# Altium footprint library Discretes.PcbLib: 56 footprints (part 4 of 4)
Each footprint in its own frame and in the unit in brackets; x right, y up, seen from the top. Pads: shape width x height; smd on the part's side, far side on the other; paste and mask are expansions set on the pad; w line width, h text height; cw(c..) or ccw(c..) is an arc to the next point about the centre after c.
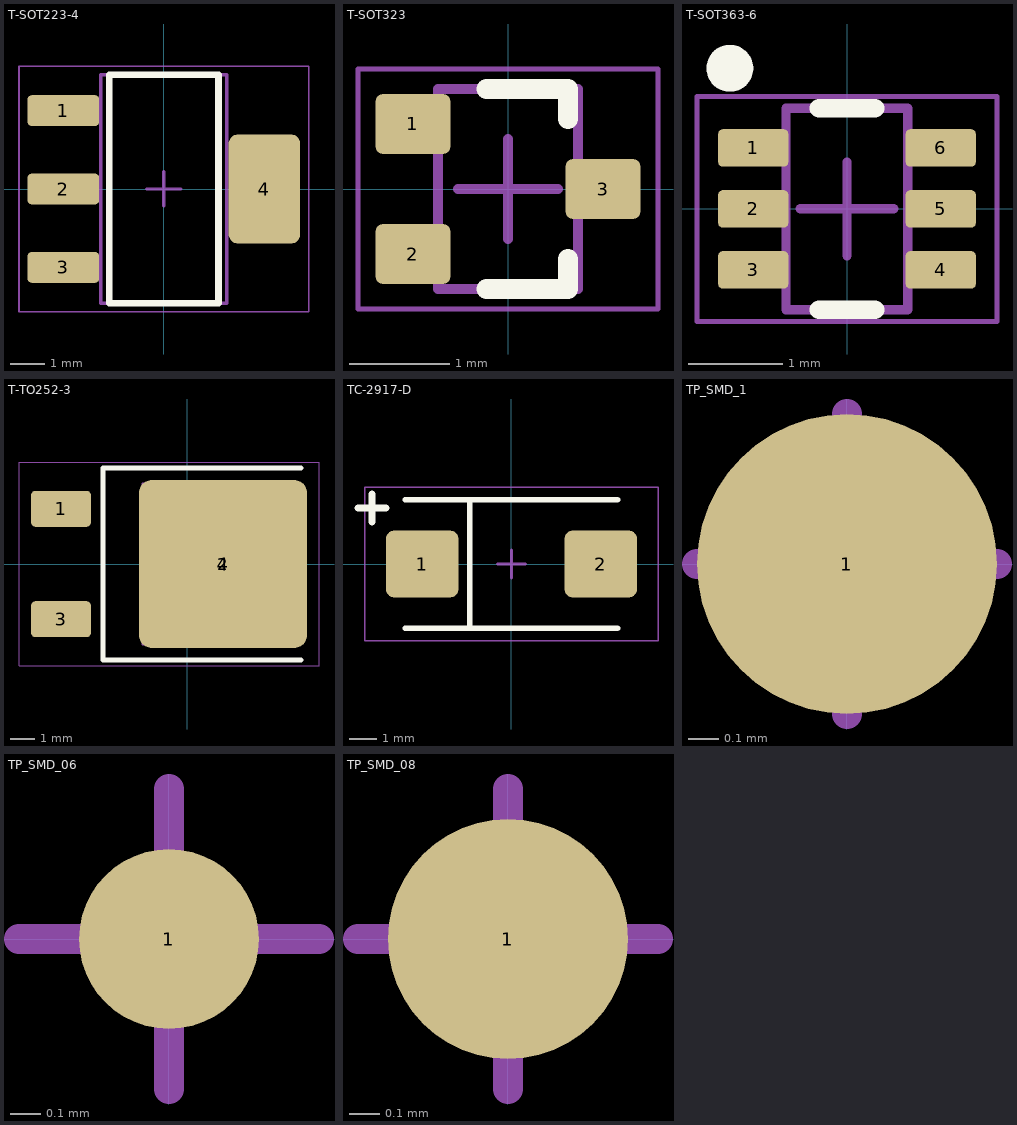
[diagram p3: the footprints below, top view; thin cyan lines are the x and y axes]

## T-SOT223-4 [mm] "SOT223, 4-Leads, Body 6.50x7.00mm (avg), Pitch 2.30mm, IPC Medium Density"
height 1.8
pads (4):
  rrect25% 2.1x0.9 smd: 1(-2.95,2.3) 2(-2.95,0) 3(-2.95,-2.3)
  rrect25% 2.1x3.2 smd: 4(2.95,0)
Top Overlay:
  lines w0.2: -1.6,-3.35 1.6,-3.35 1.6,3.35 -1.6,3.35 -1.6,-3.35
Mechanical 13:
  lines w0.1: -1.85,-3.35 1.85,-3.35 1.85,3.35 -1.85,3.35 -1.85,-3.35
Mechanical 15:
  lines w0.05: -4.25,-3.6 4.25,-3.6 4.25,3.6 -4.25,3.6 -4.25,-3.6
  lines w0.1: -0.5,0 0.5,0 ; 0,-0.5 0,0.5
3D body "SOT233-4.step": height 1.8, standoff 0, extent -3.5,-3.35 3.5,3.35

## T-SOT323 [mm] "SOT323"
height 1.2
pads (3):
  rrect25% 0.75x0.6 smd: 1(-0.95,0.65) 2(-0.95,-0.65) 3(0.95,0)
Top Overlay:
  lines w0.2: -0.215,-1 0.6,-1 0.6,-0.7 ; -0.215,1 0.6,1 0.6,0.7
Mechanical 13:
  lines w0.1: -0.7,-1 0.7,-1 0.7,1 -0.7,1 -0.7,-1
Mechanical 15:
  lines w0.05: -1.5,-1.2 1.5,-1.2 1.5,1.2 -1.5,1.2 -1.5,-1.2
  lines w0.1: -0.5,0 0.5,0 ; 0,-0.5 0,0.5
3D body "SOT323.step": height 0.93, standoff -0.02, extent -1.05,-1.05 1.05,1.05

## T-SOT363-6 [mm] "SOT363"
height 1.2
pads (6):
  rrect25% 0.75x0.4 smd: 1(-1,0.65) 2(-1,0) 3(-1,-0.65) 4(1,-0.65) 5(1,0) 6(1,0.65)
Top Overlay:
  circle w0.25: c-1.25,1.5 r0.125
  lines w0.2: -0.3,-1.075 0.3,-1.075 ; -0.3,1.075 0.3,1.075
Mechanical 13:
  lines w0.1: -0.65,-1.075 -0.65,1.075 0.65,1.075 0.65,-1.075 -0.65,-1.075
Mechanical 15:
  lines w0.05: -1.6,-1.2 -1.6,1.2 1.6,1.2 1.6,-1.2 -1.6,-1.2
  lines w0.1: -0.5,0 0.5,0 ; 0,-0.5 0,0.5
3D body "SOT363.step": height 0.93, standoff -0.02, extent -1.05,-1.1 1.05,1.05

## T-TO252-3 [mm] "TO252-3 / DPAK - No center lead"
height 1.8
pads (4):
  rrect25% 2.5x1.5 smd: 1(-5.25,2.3) 3(-5.25,-2.3)
  rrect25% 2.1x0.9 smd: 2(1.5,0)
  rrect15% 7x7 smd: 4(1.5,0)
Top Overlay:
  lines w0.2: 4.75,-4 -3.5,-4 -3.5,4 4.75,4
Mechanical 13:
  lines w0.1: -1.85,-3.35 -1.85,3.35 1.85,3.35 1.85,-3.35 -1.85,-3.35
Mechanical 15:
  lines w0.05: -7,-4.25 -7,4.25 5.5,4.25 5.5,-4.25 -7,-4.25
  lines w0.1: -0.5,0 0.5,0 ; 0,-0.5 0,0.5
3D body "TO-252-2.step": height 2.32, standoff 0, extent -5.79,-3.25 4.11,3.25

## TC-2917-D [mm] "Capacitor, SM Tantalum; Body 7.3 x 4.3 mm (LxW typ)"
height 3.1
pads (2):
  rrect25% 2.6x2.4 smd: 1(-3.2,0) 2(3.2,0)
Top Overlay:
  lines w0.2: -3.8,-2.3 3.8,-2.3 ; -3.8,2.3 3.8,2.3 ; -1.5,-2.3 -1.5,2.3
  lines w0.25: -5.5,2 -4.5,2 ; -5,1.5 -5,2.5
Mechanical 15:
  lines w0.05: -5.25,-2.75 5.25,-2.75 5.25,2.75 -5.25,2.75 -5.25,-2.75
  lines w0.1: -0.5,0 0.5,0 ; 0,-0.5 0,0.5
3D body "T491D477M006AT.step": height 3.11, standoff 0.01, extent -3.8,-2.314 3.8,2.286

## TP_SMD_1 [mm] "SMD Testpoint 1mm"
pads (1):
  round 1 smd paste-10: 1(0,0)
Mechanical 15:
  lines w0.1: -0.5,0 0.5,0 ; 0,-0.5 0,0.5

## TP_SMD_06 [mm] "SMD Testpoint 0.6mm"
pads (1):
  round 0.6 smd paste-10: 1(0,0)
Mechanical 15:
  lines w0.1: -0.5,0 0.5,0 ; 0,-0.5 0,0.5

## TP_SMD_08 [mm] "SMD Testpoint 0.8mm"
pads (1):
  round 0.8 smd paste-10: 1(0,0)
Mechanical 15:
  lines w0.1: -0.5,0 0.5,0 ; 0,-0.5 0,0.5